# Altium schematic symbol library LT1719CS8#PBF.SchLib: 1 symbol
Pins are listed as number, name and electrical type; pins without a type are passive.

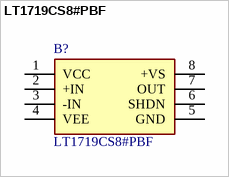
[diagram p0: symbol LT1719CS8#PBF]

## LT1719CS8#PBF
designator B?
LT1719CS8#PBF, Comparator 3 V, 5 V 8-Pin SOIC N; Manufacturer_Name: Analog Devices; Geometry.Height: 1.752mm; Mouser Part Number: 584-LT1719CS8#PBF; Mouser Price/Stock: https://www.mouser.co.uk/ProductDetail/Analog-Devices/LT1719CS8PBF?qs=ytflclh7QUVguooTyPJ7PQ%3D%3D; Manufacturer_Part_Number: LT1719CS8#PBF; Datasheet Link: http://cds.linear.com/docs/en/datasheet/1719fa.pdf
footprint SOIC127P599X175-8N
pins: 1 VCC, 2 +IN, 3 -IN, 4 VEE, 5 GND, 6 SHDN, 7 OUT, 8 +VS